# EAGLE library part UCC27531 (library shieldLibrary)
TEXAS INSTRUMENTS Gate driver 32 V DBVR Package
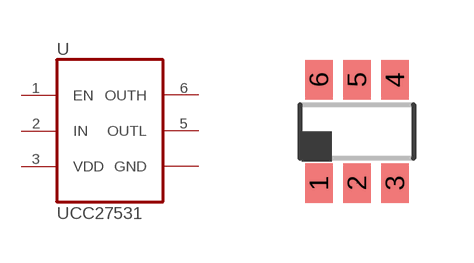
[diagram p0: symbol with the pads of DBV_R-PDSO-G6; footprint DBV_R-PDSO-G6]

Designator prefix U

## UCC27531  [DBV_R-PDSO-G6]
1  EN  in
2  IN  in
3  VDD  pwr
4  GND  pwr
5  OUTL  pwr
6  OUTH  pwr

## Footprint DBV_R-PDSO-G6 (pad centres in mm)
DBV (R-PDSO-G6) PLASTIC SMALL-OUTLINE PACKAGE SOT (SOT-23) - DBV Source: http://focus.ti.com/lit/ds/symlink/sn74lvc1g3157.
smd 0.69 x 0.99: 1 -0.95,-1.29; 2 0,-1.29; 3 0.95,-1.29; 4 0.95,1.3; 5 0,1.3; 6 -0.95,1.3